# Altium schematic symbol library SCH - MCU - ATMEGA - MICROCHIP ATXMEGA64A3U-MH QFN64.SchLib: 1 symbol
Pins are listed as number, name and electrical type; pins without a type are passive.

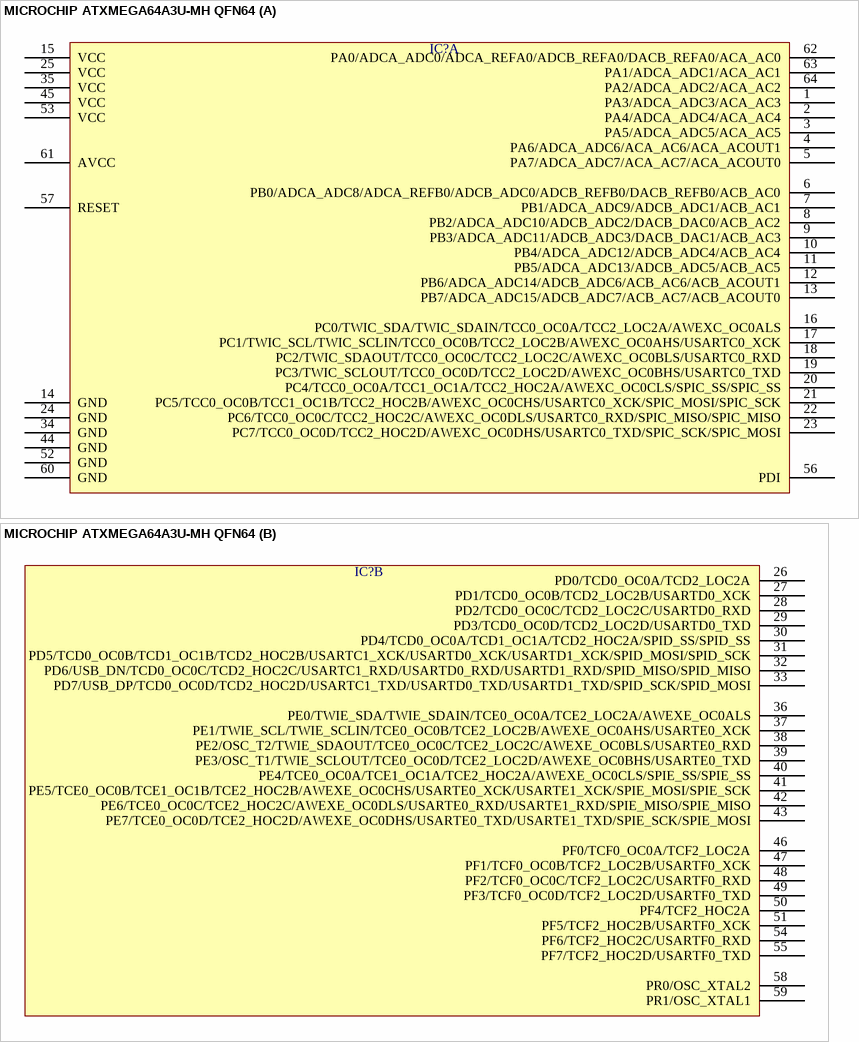
[diagram p0: symbol MICROCHIP ATXMEGA64A3U-MH QFN64]

## MICROCHIP ATXMEGA64A3U-MH QFN64
designator IC?  (value not drawn)
part A pins: 1 PA3/ADCA_ADC3/ACA_AC3, 2 PA4/ADCA_ADC4/ACA_AC4, 3 PA5/ADCA_ADC5/ACA_AC5, 4 PA6/ADCA_ADC6/ACA_AC6/ACA_ACOUT1, 5 PA7/ADCA_ADC7/ACA_AC7/ACA_ACOUT0, 6 PB0/ADCA_ADC8/ADCA_REFB0/ADCB_ADC0/ADCB_REFB0/DACB_REFB0/ACB_AC0, 7 PB1/ADCA_ADC9/ADCB_ADC1/ACB_AC1, 8 PB2/ADCA_ADC10/ADCB_ADC2/DACB_DAC0/ACB_AC2, 9 PB3/ADCA_ADC11/ADCB_ADC3/DACB_DAC1/ACB_AC3, 10 PB4/ADCA_ADC12/ADCB_ADC4/ACB_AC4, 11 PB5/ADCA_ADC13/ADCB_ADC5/ACB_AC5, 12 PB6/ADCA_ADC14/ADCB_ADC6/ACB_AC6/ACB_ACOUT1, 13 PB7/ADCA_ADC15/ADCB_ADC7/ACB_AC7/ACB_ACOUT0, 14 GND, 15 VCC, 16 PC0/TWIC_SDA/TWIC_SDAIN/TCC0_OC0A/TCC2_LOC2A/AWEXC_OC0ALS, 17 PC1/TWIC_SCL/TWIC_SCLIN/TCC0_OC0B/TCC2_LOC2B/AWEXC_OC0AHS/USARTC0_XCK, 18 PC2/TWIC_SDAOUT/TCC0_OC0C/TCC2_LOC2C/AWEXC_OC0BLS/USARTC0_RXD, 19 PC3/TWIC_SCLOUT/TCC0_OC0D/TCC2_LOC2D/AWEXC_OC0BHS/USARTC0_TXD, 20 PC4/TCC0_OC0A/TCC1_OC1A/TCC2_HOC2A/AWEXC_OC0CLS/SPIC_SS/SPIC_SS, 21 PC5/TCC0_OC0B/TCC1_OC1B/TCC2_HOC2B/AWEXC_OC0CHS/USARTC0_XCK/SPIC_MOSI/SPIC_SCK, 22 PC6/TCC0_OC0C/TCC2_HOC2C/AWEXC_OC0DLS/USARTC0_RXD/SPIC_MISO/SPIC_MISO, 23 PC7/TCC0_OC0D/TCC2_HOC2D/AWEXC_OC0DHS/USARTC0_TXD/SPIC_SCK/SPIC_MOSI, 24 GND, 25 VCC, 34 GND, 35 VCC, 44 GND, 45 VCC, 52 GND, 53 VCC, 56 PDI, 57 RESET, 60 GND, 61 AVCC, 62 PA0/ADCA_ADC0/ADCA_REFA0/ADCB_REFA0/DACB_REFA0/ACA_AC0, 63 PA1/ADCA_ADC1/ACA_AC1, 64 PA2/ADCA_ADC2/ACA_AC2
part B pins: 26 PD0/TCD0_OC0A/TCD2_LOC2A, 27 PD1/TCD0_OC0B/TCD2_LOC2B/USARTD0_XCK, 28 PD2/TCD0_OC0C/TCD2_LOC2C/USARTD0_RXD, 29 PD3/TCD0_OC0D/TCD2_LOC2D/USARTD0_TXD, 30 PD4/TCD0_OC0A/TCD1_OC1A/TCD2_HOC2A/SPID_SS/SPID_SS, 31 PD5/TCD0_OC0B/TCD1_OC1B/TCD2_HOC2B/USARTC1_XCK/USARTD0_XCK/USARTD1_XCK/SPID_MOSI/SPID_SCK, 32 PD6/USB_DN/TCD0_OC0C/TCD2_HOC2C/USARTC1_RXD/USARTD0_RXD/USARTD1_RXD/SPID_MISO/SPID_MISO, 33 PD7/USB_DP/TCD0_OC0D/TCD2_HOC2D/USARTC1_TXD/USARTD0_TXD/USARTD1_TXD/SPID_SCK/SPID_MOSI, 36 PE0/TWIE_SDA/TWIE_SDAIN/TCE0_OC0A/TCE2_LOC2A/AWEXE_OC0ALS, 37 PE1/TWIE_SCL/TWIE_SCLIN/TCE0_OC0B/TCE2_LOC2B/AWEXE_OC0AHS/USARTE0_XCK, 38 PE2/OSC_T2/TWIE_SDAOUT/TCE0_OC0C/TCE2_LOC2C/AWEXE_OC0BLS/USARTE0_RXD, 39 PE3/OSC_T1/TWIE_SCLOUT/TCE0_OC0D/TCE2_LOC2D/AWEXE_OC0BHS/USARTE0_TXD, 40 PE4/TCE0_OC0A/TCE1_OC1A/TCE2_HOC2A/AWEXE_OC0CLS/SPIE_SS/SPIE_SS, 41 PE5/TCE0_OC0B/TCE1_OC1B/TCE2_HOC2B/AWEXE_OC0CHS/USARTE0_XCK/USARTE1_XCK/SPIE_MOSI/SPIE_SCK, 42 PE6/TCE0_OC0C/TCE2_HOC2C/AWEXE_OC0DLS/USARTE0_RXD/USARTE1_RXD/SPIE_MISO/SPIE_MISO, 43 PE7/TCE0_OC0D/TCE2_HOC2D/AWEXE_OC0DHS/USARTE0_TXD/USARTE1_TXD/SPIE_SCK/SPIE_MOSI, 46 PF0/TCF0_OC0A/TCF2_LOC2A, 47 PF1/TCF0_OC0B/TCF2_LOC2B/USARTF0_XCK, 48 PF2/TCF0_OC0C/TCF2_LOC2C/USARTF0_RXD, 49 PF3/TCF0_OC0D/TCF2_LOC2D/USARTF0_TXD, 50 PF4/TCF2_HOC2A, 51 PF5/TCF2_HOC2B/USARTF0_XCK, 54 PF6/TCF2_HOC2C/USARTF0_RXD, 55 PF7/TCF2_HOC2D/USARTF0_TXD, 58 PR0/OSC_XTAL2, 59 PR1/OSC_XTAL1